# EAGLE library part EFM32G200F32 (library EnergyMicro)
EFM32G200F32 Gecko Microcontroller in 6mm x 6mm QFN32 package
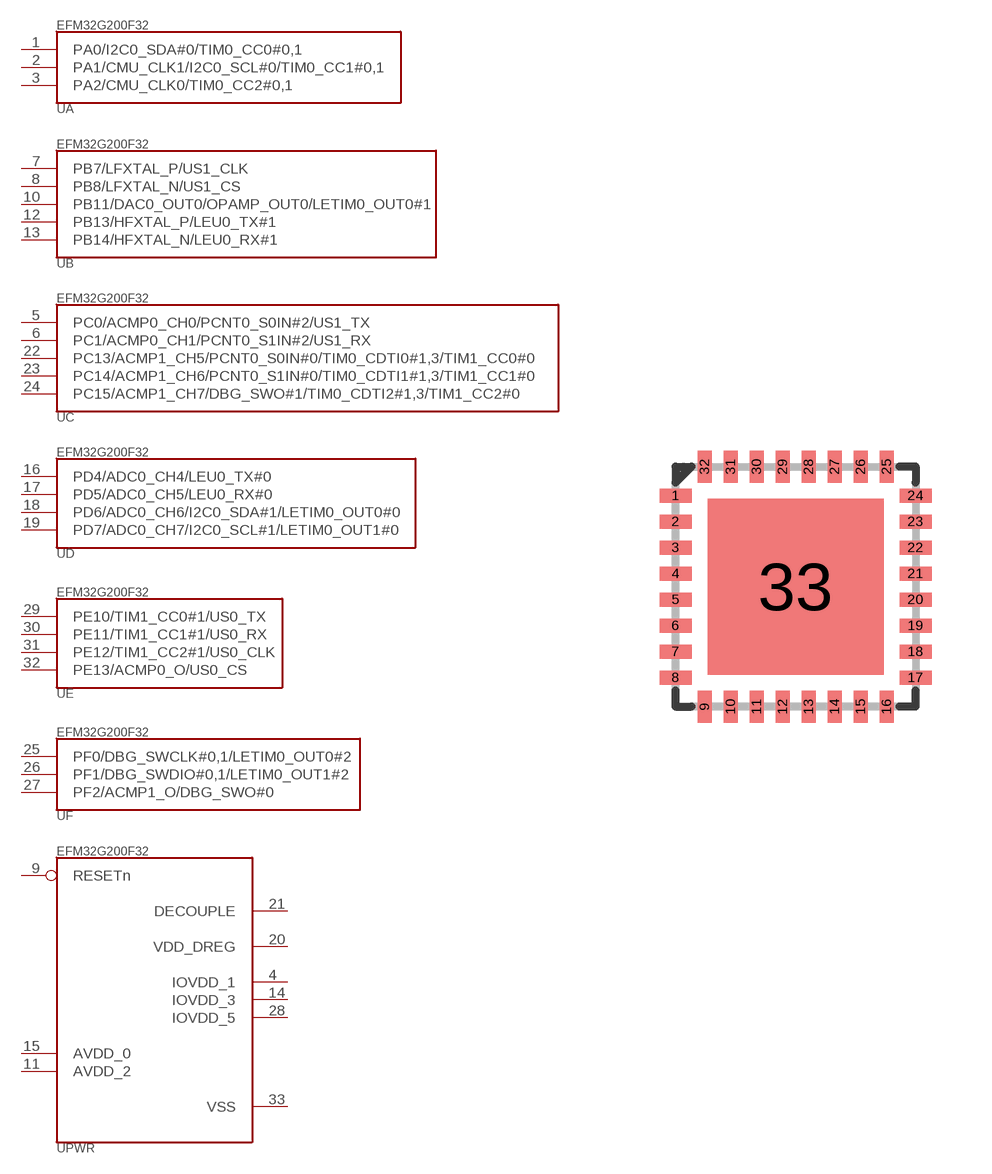
[diagram p1: symbol with the pads of QFN32; footprint QFN32]

Designator prefix -; gates A=EFM32G200F32_A B=EFM32G200F32_B C=EFM32G200F32_C D=EFM32G200F32_D E=EFM32G200F32_E F=EFM32G200F32_F PWR=EFM32G200F32_PWR

## EFM32G200F32  [QFN32]
1  A:PA0/I2C0_SDA#0/TIM0_CC0#0,1
2  A:PA1/CMU_CLK1/I2C0_SCL#0/TIM0_CC1#0,1
3  A:PA2/CMU_CLK0/TIM0_CC2#0,1
4  PWR:IOVDD_1  pwr
5  C:PC0/ACMP0_CH0/PCNT0_S0IN#2/US1_TX
6  C:PC1/ACMP0_CH1/PCNT0_S1IN#2/US1_RX
7  B:PB7/LFXTAL_P/US1_CLK
8  B:PB8/LFXTAL_N/US1_CS
9  PWR:RESETn  pas
10  B:PB11/DAC0_OUT0/OPAMP_OUT0/LETIM0_OUT0#1
11  PWR:AVDD_2  pwr
12  B:PB13/HFXTAL_P/LEU0_TX#1
13  B:PB14/HFXTAL_N/LEU0_RX#1
14  PWR:IOVDD_3  pwr
15  PWR:AVDD_0  pwr
16  D:PD4/ADC0_CH4/LEU0_TX#0
17  D:PD5/ADC0_CH5/LEU0_RX#0
18  D:PD6/ADC0_CH6/I2C0_SDA#1/LETIM0_OUT0#0
19  D:PD7/ADC0_CH7/I2C0_SCL#1/LETIM0_OUT1#0
20  PWR:VDD_DREG  pwr
21  PWR:DECOUPLE  pwr
22  C:PC13/ACMP1_CH5/PCNT0_S0IN#0/TIM0_CDTI0#1,3/TIM1_CC0#0
23  C:PC14/ACMP1_CH6/PCNT0_S1IN#0/TIM0_CDTI1#1,3/TIM1_CC1#0
24  C:PC15/ACMP1_CH7/DBG_SWO#1/TIM0_CDTI2#1,3/TIM1_CC2#0
25  F:PF0/DBG_SWCLK#0,1/LETIM0_OUT0#2
26  F:PF1/DBG_SWDIO#0,1/LETIM0_OUT1#2
27  F:PF2/ACMP1_O/DBG_SWO#0
28  PWR:IOVDD_5  pwr
29  E:PE10/TIM1_CC0#1/US0_TX
30  E:PE11/TIM1_CC1#1/US0_RX
31  E:PE12/TIM1_CC2#1/US0_CLK
32  E:PE13/ACMP0_O/US0_CS
33  PWR:VSS  pwr

## Footprint QFN32 (pad centres in mm)
smd 0.8 x 0.35: 1 -3,2.275; 2 -3,1.625; 3 -3,0.975; 4 -3,0.325; 5 -3,-0.325; 6 -3,-0.975; 7 -3,-1.625; 8 -3,-2.275; 17 3,-2.275; 18 3,-1.625; 19 3,-0.975; 20 3,-0.325; 21 3,0.325; 22 3,0.975; 23 3,1.625; 24 3,2.275
smd 0.35 x 0.8: 9 -2.275,-3; 10 -1.625,-3; 11 -0.975,-3; 12 -0.325,-3; 13 0.325,-3; 14 0.975,-3; 15 1.625,-3; 16 2.275,-3; 25 2.275,3; 26 1.625,3; 27 0.975,3; 28 0.325,3; 29 -0.325,3; 30 -0.975,3; 31 -1.625,3; 32 -2.275,3
smd 4.4 x 4.4: 33 0,0